# EAGLE library part M24M02 (library IntegratedLib)
EEPROM i2C 256kx8bits (SO-8N)
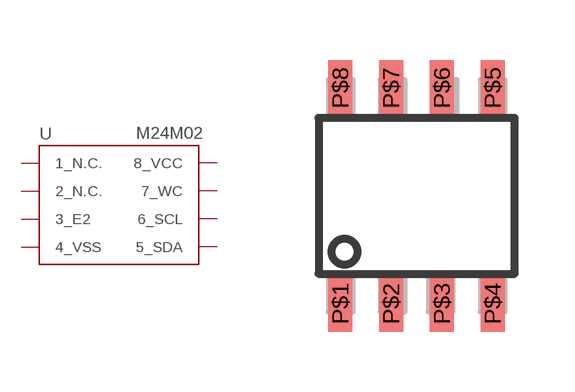
[diagram p4: symbol with the pads of SO-8N; footprint SO-8N]

Designator prefix U

## M24M02 (FABRICANTE: ST; PARTNUMBER: M24M02; TIPO: CIRCUITO INTEGRADO)  [SO-8N]
P$1  1_N.C.
P$2  2_N.C.
P$3  3_E2
P$4  4_VSS
P$5  5_SDA
P$6  6_SCL
P$7  7_WC
P$8  8_VCC

## Footprint SO-8N (pad centres in mm)
smd 0.6 x 1.4: P$1 -1.905,-2.7; P$2 -0.635,-2.7; P$3 0.635,-2.7; P$4 1.905,-2.7; P$5 1.905,2.7; P$6 0.635,2.7; P$7 -0.635,2.7; P$8 -1.905,2.7